# Altium footprint library LED-Driver.PcbLib: 35 footprints (part 1 of 3)
Each footprint in its own frame and in the unit in brackets; x right, y up, seen from the top. Pads: shape width x height; smd on the part's side, far side on the other; paste and mask are expansions set on the pad; w line width, h text height; cw(c..) or ccw(c..) is an arc to the next point about the centre after c.
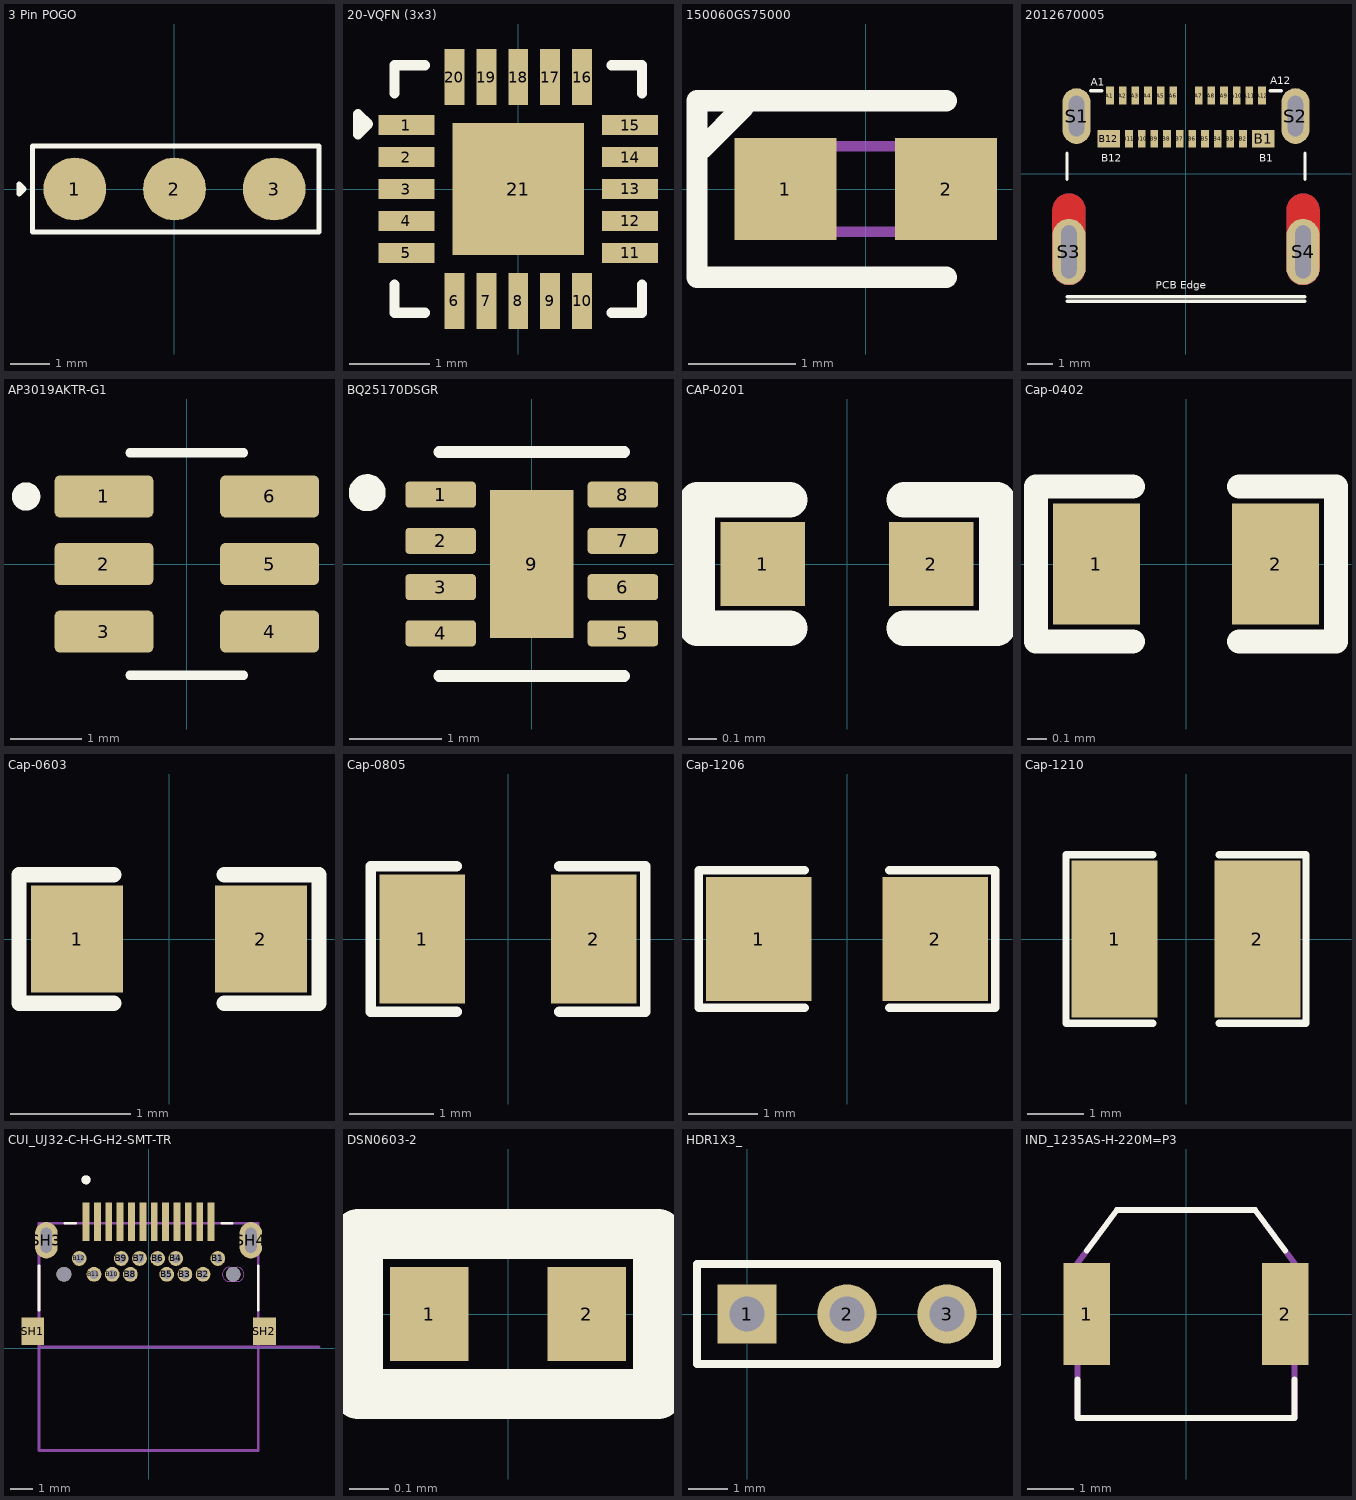
[diagram p0: the footprints below, top view; thin cyan lines are the x and y axes]

## 3 Pin POGO [mm]
pads (3):
  round 1.6 smd: 1(-2.54,0) 2(0,0) 3(2.54,0)
Top Overlay:
  lines w0.127: -3.962,-0.127 -3.962,0.127 -3.835,0 -3.962,-0.127 ; -3.616,-1.092 3.683,-1.092 3.683,1.092 -3.616,1.092 -3.616,-1.092

## 20-VQFN (3x3) [mm]
pads (21):
  rect 0.7x0.25 smd: 1(-1.4,0.8) 2(-1.4,0.4) 3(-1.4,0) 4(-1.4,-0.4) 5(-1.4,-0.8) 11(1.4,-0.8) 12(1.4,-0.4) 13(1.4,0) 14(1.4,0.4) 15(1.4,0.8)
  rect 0.25x0.7 smd: 6(-0.8,-1.4) 7(-0.4,-1.4) 8(0,-1.4) 9(0.4,-1.4) 10(0.8,-1.4) 16(0.8,1.4) 17(0.4,1.4) 18(0,1.4) 19(-0.4,1.4) 20(-0.8,1.4)
  rect 1.65x1.65 smd: 21(0,0)
Top Overlay:
  lines w0.127: -1.549,-1.194 -1.549,-1.549 -1.168,-1.549 ; -1.549,1.194 -1.549,1.549 -1.168,1.549 ; 1.168,-1.549 1.549,-1.549 1.549,-1.194 ; 1.168,1.549 1.549,1.549 1.549,1.194 ; -2.007,0.686 -2.007,0.94 -1.88,0.813 -2.007,0.686
3D body "VQFN20_3X3_MCH.step": height 0.59, standoff 0, extent -1.499,-1.499 1.499,1.499

## 150060GS75000 [mm]
pads (2):
  rect 0.95x0.95 smd: 1(-0.75,0) 2(0.75,0)
Top Overlay:
  lines w0.2: -1.524,0.381 -1.143,0.762 ; 0.75,-0.825 -1.575,-0.825 -1.575,0.825 0.75,0.825
Mechanical 13:
  lines w0.1: -0.8,0.133 -0.533,0.4 ; -0.8,-0.4 -0.8,0.4 0.8,0.4 0.8,-0.4 -0.8,-0.4
3D body "150060GS75000--3DModel-STEP-510211.STEP": height 0.81, standoff 0.01, extent -0.8,-0.4 0.8,0.4

## 2012670005 [mm]
pads (28):
  rect 0.3x0.7 smd: A1(-3,3.085) A2(-2.5,3.085) A3(-2,3.085) A4(-1.5,3.085) A5(-1,3.085) A6(-0.5,3.085) A7(0.5,3.085) A8(1,3.085) A9(1.5,3.085) A10(2,3.085) A11(2.5,3.085) A12(3,3.085) B2(2.25,1.385) B3(1.75,1.385) B4(1.25,1.385) B5(0.75,1.385) B6(0.25,1.385) B7(-0.25,1.385) B8(-0.75,1.385) B9(-1.25,1.385) B10(-1.75,1.385) B11(-2.25,1.385)
  rect 0.9x0.7 smd: B1(3.05,1.385) B12(-3.05,1.385)
  oval 1.1x2.2 hole 0.6 slot 1.6 at 90 deg: S1(-4.32,2.275) S2(4.32,2.275)
  oval 1.3x2.6 hole 0.6 slot 2.1 at 90 deg: S3(-4.62,-3.085) S4(4.62,-3.085)
Top Layer:
  region: 4.654,-0.786 4.688,-0.789 4.722,-0.793 4.755,-0.799 4.788,-0.807 4.821,-0.817 4.853,-0.828 4.884,-0.841 4.915,-0.856 4.945,-0.872 4.974,-0.89 5.002,-0.909 5.029,-0.93 5.055,-0.952 5.08,-0.975 5.103,-1 5.125,-1.026 5.146,-1.053 5.165,-1.081 5.183,-1.11 5.199,-1.14 5.214,-1.171 5.227,-1.202 5.238,-1.234 5.248,-1.267 5.256,-1.3 5.262,-1.333 5.266,-1.367 5.269,-1.401 5.27,-1.435 5.27,-3.735 5.269,-3.769 5.266,-3.803 5.262,-3.837 5.256,-3.87 5.248,-3.903 5.238,-3.936 5.227,-3.968 5.214,-3.999 5.199,-4.03 5.183,-4.06 5.165,-4.089 5.146,-4.117 5.125,-4.144 5.103,-4.17 5.08,-4.195 5.055,-4.218 5.029,-4.24 5.002,-4.261 4.974,-4.28 4.945,-4.298 4.915,-4.314 4.884,-4.329 4.853,-4.342 4.821,-4.353 4.788,-4.363 4.755,-4.371 4.722,-4.377 4.688,-4.381 4.654,-4.384 4.62,-4.385 4.586,-4.384 4.552,-4.381 4.518,-4.377 4.485,-4.371 4.452,-4.363 4.419,-4.353 4.387,-4.342 4.356,-4.329 4.325,-4.314 4.295,-4.298 4.266,-4.28 4.238,-4.261 4.211,-4.24 4.185,-4.218 4.16,-4.195 4.137,-4.17 4.115,-4.144 4.094,-4.117 4.075,-4.089 4.057,-4.06 4.041,-4.03 4.026,-3.999 4.013,-3.968 4.002,-3.936 3.992,-3.903 3.984,-3.87 3.978,-3.837 3.974,-3.803 3.971,-3.769 3.97,-3.735 3.97,-1.435 3.971,-1.401 3.974,-1.367 3.978,-1.333 3.984,-1.3 3.992,-1.267 4.002,-1.234 4.013,-1.202 4.026,-1.171 4.041,-1.14 4.057,-1.11 4.075,-1.081 4.094,-1.053 4.115,-1.026 4.137,-1 4.16,-0.975 4.185,-0.952 4.211,-0.93 4.238,-0.909 4.266,-0.89 4.295,-0.872 4.325,-0.856 4.356,-0.841 4.387,-0.828 4.419,-0.817 4.452,-0.807 4.485,-0.799 4.518,-0.793 4.552,-0.789 4.586,-0.786 4.62,-0.785
  region: -4.586,-0.786 -4.552,-0.789 -4.518,-0.793 -4.485,-0.799 -4.452,-0.807 -4.419,-0.817 -4.387,-0.828 -4.356,-0.841 -4.325,-0.856 -4.295,-0.872 -4.266,-0.89 -4.238,-0.909 -4.211,-0.93 -4.185,-0.952 -4.16,-0.975 -4.137,-1 -4.115,-1.026 -4.094,-1.053 -4.075,-1.081 -4.057,-1.11 -4.041,-1.14 -4.026,-1.171 -4.013,-1.202 -4.002,-1.234 -3.992,-1.267 -3.984,-1.3 -3.978,-1.333 -3.974,-1.367 -3.971,-1.401 -3.97,-1.435 -3.97,-3.735 -3.971,-3.769 -3.974,-3.803 -3.978,-3.837 -3.984,-3.87 -3.992,-3.903 -4.002,-3.936 -4.013,-3.968 -4.026,-3.999 -4.041,-4.03 -4.057,-4.06 -4.075,-4.089 -4.094,-4.117 -4.115,-4.144 -4.137,-4.17 -4.16,-4.195 -4.185,-4.218 -4.211,-4.24 -4.238,-4.261 -4.266,-4.28 -4.295,-4.298 -4.325,-4.314 -4.356,-4.329 -4.387,-4.342 -4.419,-4.353 -4.452,-4.363 -4.485,-4.371 -4.518,-4.377 -4.552,-4.381 -4.586,-4.384 -4.62,-4.385 -4.654,-4.384 -4.688,-4.381 -4.722,-4.377 -4.755,-4.371 -4.788,-4.363 -4.821,-4.353 -4.853,-4.342 -4.884,-4.329 -4.915,-4.314 -4.945,-4.298 -4.974,-4.28 -5.002,-4.261 -5.029,-4.24 -5.055,-4.218 -5.08,-4.195 -5.103,-4.17 -5.125,-4.144 -5.146,-4.117 -5.165,-4.089 -5.183,-4.06 -5.199,-4.03 -5.214,-3.999 -5.227,-3.968 -5.238,-3.936 -5.248,-3.903 -5.256,-3.87 -5.262,-3.837 -5.266,-3.803 -5.269,-3.769 -5.27,-3.735 -5.27,-1.435 -5.269,-1.401 -5.266,-1.367 -5.262,-1.333 -5.256,-1.3 -5.248,-1.267 -5.238,-1.234 -5.227,-1.202 -5.214,-1.171 -5.199,-1.14 -5.183,-1.11 -5.165,-1.081 -5.146,-1.053 -5.125,-1.026 -5.103,-1 -5.08,-0.975 -5.055,-0.952 -5.029,-0.93 -5.002,-0.909 -4.974,-0.89 -4.945,-0.872 -4.915,-0.856 -4.884,-0.841 -4.853,-0.828 -4.821,-0.817 -4.788,-0.807 -4.755,-0.799 -4.722,-0.793 -4.688,-0.789 -4.654,-0.786 -4.62,-0.785
Bottom Layer:
  region: 4.654,-0.786 4.688,-0.789 4.722,-0.793 4.755,-0.799 4.788,-0.807 4.821,-0.817 4.853,-0.828 4.884,-0.841 4.915,-0.856 4.945,-0.872 4.974,-0.89 5.002,-0.909 5.029,-0.93 5.055,-0.952 5.08,-0.975 5.103,-1 5.125,-1.026 5.146,-1.053 5.165,-1.081 5.183,-1.11 5.199,-1.14 5.214,-1.171 5.227,-1.202 5.238,-1.234 5.248,-1.267 5.256,-1.3 5.262,-1.333 5.266,-1.367 5.269,-1.401 5.27,-1.435 5.27,-3.735 5.269,-3.769 5.266,-3.803 5.262,-3.837 5.256,-3.87 5.248,-3.903 5.238,-3.936 5.227,-3.968 5.214,-3.999 5.199,-4.03 5.183,-4.06 5.165,-4.089 5.146,-4.117 5.125,-4.144 5.103,-4.17 5.08,-4.195 5.055,-4.218 5.029,-4.24 5.002,-4.261 4.974,-4.28 4.945,-4.298 4.915,-4.314 4.884,-4.329 4.853,-4.342 4.821,-4.353 4.788,-4.363 4.755,-4.371 4.722,-4.377 4.688,-4.381 4.654,-4.384 4.62,-4.385 4.586,-4.384 4.552,-4.381 4.518,-4.377 4.485,-4.371 4.452,-4.363 4.419,-4.353 4.387,-4.342 4.356,-4.329 4.325,-4.314 4.295,-4.298 4.266,-4.28 4.238,-4.261 4.211,-4.24 4.185,-4.218 4.16,-4.195 4.137,-4.17 4.115,-4.144 4.094,-4.117 4.075,-4.089 4.057,-4.06 4.041,-4.03 4.026,-3.999 4.013,-3.968 4.002,-3.936 3.992,-3.903 3.984,-3.87 3.978,-3.837 3.974,-3.803 3.971,-3.769 3.97,-3.735 3.97,-1.435 3.971,-1.401 3.974,-1.367 3.978,-1.333 3.984,-1.3 3.992,-1.267 4.002,-1.234 4.013,-1.202 4.026,-1.171 4.041,-1.14 4.057,-1.11 4.075,-1.081 4.094,-1.053 4.115,-1.026 4.137,-1 4.16,-0.975 4.185,-0.952 4.211,-0.93 4.238,-0.909 4.266,-0.89 4.295,-0.872 4.325,-0.856 4.356,-0.841 4.387,-0.828 4.419,-0.817 4.452,-0.807 4.485,-0.799 4.518,-0.793 4.552,-0.789 4.586,-0.786 4.62,-0.785
  region: -4.586,-0.786 -4.552,-0.789 -4.518,-0.793 -4.485,-0.799 -4.452,-0.807 -4.419,-0.817 -4.387,-0.828 -4.356,-0.841 -4.325,-0.856 -4.295,-0.872 -4.266,-0.89 -4.238,-0.909 -4.211,-0.93 -4.185,-0.952 -4.16,-0.975 -4.137,-1 -4.115,-1.026 -4.094,-1.053 -4.075,-1.081 -4.057,-1.11 -4.041,-1.14 -4.026,-1.171 -4.013,-1.202 -4.002,-1.234 -3.992,-1.267 -3.984,-1.3 -3.978,-1.333 -3.974,-1.367 -3.971,-1.401 -3.97,-1.435 -3.97,-3.735 -3.971,-3.769 -3.974,-3.803 -3.978,-3.837 -3.984,-3.87 -3.992,-3.903 -4.002,-3.936 -4.013,-3.968 -4.026,-3.999 -4.041,-4.03 -4.057,-4.06 -4.075,-4.089 -4.094,-4.117 -4.115,-4.144 -4.137,-4.17 -4.16,-4.195 -4.185,-4.218 -4.211,-4.24 -4.238,-4.261 -4.266,-4.28 -4.295,-4.298 -4.325,-4.314 -4.356,-4.329 -4.387,-4.342 -4.419,-4.353 -4.452,-4.363 -4.485,-4.371 -4.518,-4.377 -4.552,-4.381 -4.586,-4.384 -4.62,-4.385 -4.654,-4.384 -4.688,-4.381 -4.722,-4.377 -4.755,-4.371 -4.788,-4.363 -4.821,-4.353 -4.853,-4.342 -4.884,-4.329 -4.915,-4.314 -4.945,-4.298 -4.974,-4.28 -5.002,-4.261 -5.029,-4.24 -5.055,-4.218 -5.08,-4.195 -5.103,-4.17 -5.125,-4.144 -5.146,-4.117 -5.165,-4.089 -5.183,-4.06 -5.199,-4.03 -5.214,-3.999 -5.227,-3.968 -5.238,-3.936 -5.248,-3.903 -5.256,-3.87 -5.262,-3.837 -5.266,-3.803 -5.269,-3.769 -5.27,-3.735 -5.27,-1.435 -5.269,-1.401 -5.266,-1.367 -5.262,-1.333 -5.256,-1.3 -5.248,-1.267 -5.238,-1.234 -5.227,-1.202 -5.214,-1.171 -5.199,-1.14 -5.183,-1.11 -5.165,-1.081 -5.146,-1.053 -5.125,-1.026 -5.103,-1 -5.08,-0.975 -5.055,-0.952 -5.029,-0.93 -5.002,-0.909 -4.974,-0.89 -4.945,-0.872 -4.915,-0.856 -4.884,-0.841 -4.853,-0.828 -4.821,-0.817 -4.788,-0.807 -4.755,-0.799 -4.722,-0.793 -4.688,-0.789 -4.654,-0.786 -4.62,-0.785
Top Overlay:
  lines w0.127: -4.699,-4.855 4.699,-4.855 ; -4.695,-5.035 4.695,-5.035 ; -4.695,-0.225 -4.695,0.815 ; -3.759,3.277 -3.327,3.277 ; 3.327,3.277 3.759,3.277 ; 4.695,-0.225 4.695,0.815
  text "A1" at -3.759,3.48 h0.3
  text "B12" at -3.353,0.483 h0.3
  text "A12" at 3.327,3.531 h0.3
  text "B1" at 2.896,0.483 h0.3
  text "PCB Edge" at -1.194,-4.547 h0.3
Top Solder:
  drawing of 2 lines, arcs and shapes, not listed
Bottom Solder:
  drawing of 2 lines, arcs and shapes, not listed
3D body "201267-0005.stp": height 3.72, standoff -2.29, extent -4.695,-4.928 4.695,3.372

## AP3019AKTR-G1 [mm]
pads (6):
  rrect25% 1.39x0.59 smd: 1(-1.165,0.95) 2(-1.165,0) 3(-1.165,-0.95) 4(1.165,-0.95) 5(1.165,0) 6(1.165,0.95)
Top Overlay:
  circle w0.2: c-2.261,0.95 r0.1
  lines w0.127: -0.8,-1.565 0.8,-1.565 ; -0.8,1.565 0.8,1.565
3D body "AP3019AKTR-G1.STEP": height 1.31, standoff -0.09, extent -1.368,-1.488 1.482,1.512

## BQ25170DSGR [mm]
pads (9):
  rrect25% 0.76x0.28 smd: 1(-0.985,0.75) 2(-0.985,0.25) 3(-0.985,-0.25) 4(-0.985,-0.75) 5(0.985,-0.75) 6(0.985,-0.25) 7(0.985,0.25) 8(0.985,0.75)
  rect 0.9x1.6 smd paste-2: 9(0,0)
Top Overlay:
  circle w0.2: c-1.779,0.771 r0.1
  lines w0.127: -1,-1.21 1,-1.21 ; -1,1.21 1,1.21
Top Paste:
  region: 0.45,0.1 -0.45,0.1 -0.45,0.8 0.45,0.8
  region: 0.45,-0.8 -0.45,-0.8 -0.45,-0.1 0.45,-0.1
3D body "step_temp.STEP": height 0.8, standoff 0, extent -1,-1 1,1

## CAP-0201 [mm]
pads (2):
  rect 0.3x0.3 smd mask+0.055: 1(-0.3,0) 2(0.3,0)
Top Overlay:
  lines w0.127: -0.203,-0.229 -0.533,-0.229 -0.533,0.229 -0.203,0.229 ; 0.203,-0.229 0.533,-0.229 0.533,0.229 0.203,0.229
3D body "User Library-SMD Ceramic Capacitors_0201 (0603)_AB.STEP": height 0.28, standoff -0.02, extent -0.3,-0.15 0.301,0.15

## Cap-0402 [mil]
pads (2):
  rect 18x25 smd mask+2.36: 1(-18.5,0) 2(18.5,0)
Top Overlay:
  lines w5: -11,-16 -31,-16 -31,16 -11,16 ; 11,-16 31,-16 31,16 11,16
3D body "User Library-Capacitor 0402.step": height 18.5, standoff -1.18, extent -19.68,-9.84 19.7,9.85

## Cap-0603 [mil]
pads (2):
  rect 30x35 smd mask+2.36: 1(-30,0) 2(30,0)
Top Overlay:
  lines w5: -18,-21 -49,-21 -49,21 -18,21 ; 18,-21 49,-21 49,21 18,21
3D body "User Library-CAPC1608X09.step": height 34.25, standoff -1.18, extent -31.51,-15.75 31.49,15.74

## Cap-0805 [mil] "SMD 0805"
pads (2):
  rect 40x60 smd mask+2.76: 1(-40,0) 2(40,0)
Top Overlay:
  lines w5: -24,-34 -64,-34 -64,34 -24,34 ; 24,-34 64,-34 64,34 24,34
3D body "User Library-0805 SMD Capacitor.step": height 30, standoff -0.79, extent -39.36,-24.6 39.38,24.61

## Cap-1206 [mil] "SMD 1206"
pads (2):
  rect 60x70 smd: 1(-50,0) 2(50,0)
Top Overlay:
  lines w5: -24,-39 -84,-39 -84,39 -24,39 ; 24,-39 84,-39 84,39 24,39
3D body "User Library-1206 SMD Capacitor.step": height 39.45, standoff 0, extent -62.96,-31.46 63.03,31.53

## Cap-1210 [mil] "SMD 1210"
pads (2):
  rect 60x110 smd: 1(-50,0) 2(50,0)
Top Overlay:
  lines w5: -23,-59 -84,-59 -84,59 -23,59 ; 23,-59 84,-59 84,59 23,59
3D body "User Library-CAPC3225X10.step": height 39.37, standoff 0, extent -62.99,-49.21 63,49.22

## CUI_UJ32-C-H-G-H2-SMT-TR [mm]
pads (30):
  rect 0.3x1.7 smd mask+0.05: A1(-2.75,5.56) A2(-2.25,5.56) A3(-1.75,5.56) A4(-1.25,5.56) A5(-0.75,5.56) A6(-0.25,5.56) A7(0.25,5.56) A8(0.75,5.56) A9(1.25,5.56) A10(1.75,5.56) A11(2.25,5.56) A12(2.75,5.56)
  round 0.65 hole 0.4: B1(3.05,3.95) B2(2.4,3.25) B3(1.6,3.25) B4(1.2,3.95) B5(0.8,3.25) B6(0.4,3.95) B7(-0.4,3.95) B8(-0.8,3.25) B9(-1.2,3.95) B10(-1.6,3.25) B11(-2.4,3.25) B12(-3.05,3.95)
  rect 1x1.2 smd: SH1(-5.1,0.75) SH2(5.1,0.75)
  oval 1x1.6 hole 0.5 slot 1.1 at 90 deg: SH3(-4.5,4.75) SH4(4.5,4.75)
  round 0.65 hole 0.65 unplated: ""(-3.725,3.25)
  round 0.63 hole 0.63 unplated: ""(3.725,3.25)
Top Overlay:
  circle w0.2: c-2.75,7.41 r0.1
  lines w0.127: -4.825,1.67 -4.825,3.63 ; -3.68,5.5 -3.22,5.5 ; 3.22,5.5 3.68,5.5 ; 4.825,1.67 4.825,3.63
Mechanical 1:
  lines w0: 3.25,3.25 ccw(c3.565,3.25) 3.565,2.935 3.885,2.935 ccw(c3.885,3.25) 4.2,3.25 ccw(c3.885,3.25) 3.885,3.565 3.565,3.565 ccw(c3.565,3.25) 3.25,3.25
Mechanical 13:
  circle w0.2: c-2.75,7.41 r0.1
  lines w0.127: 7.5,0.05 -4.825,0.05 ; -4.825,0.05 -4.825,5.5 4.825,5.5 4.825,-4.5 -4.825,-4.5 -4.825,0.05
  text "PCB Edge" at 6.5,0.15 h0.61
3D body "CUI_DEVICES_UJ32-C-H-G-H2-SMT-TR.step": height 3.43, standoff -2.23, extent -5.206,-4.419 5.194,5.891

## DSN0603-2 [mm]
pads (2):
  rect 0.2x0.24 smd mask+0.055: 1(-0.2,0) 2(0.2,0)
Top Overlay:
  lines w0.127: -0.381,-0.203 0.381,-0.203 0.381,0.203 -0.381,0.203 -0.381,-0.203
3D body "PESD5V0H1BSF.STEP": height 0.32, standoff 0, extent -0.3,-0.15 0.3,0.15

## HDR1X3_ [mm] "Connector; Header; 3 Position"
pads (3):
  rect 1.5x1.5 hole 0.9: 1(0,0)
  round 1.5 hole 0.9: 2(2.54,0) 3(5.08,0)
Top Overlay:
  lines w0.2: -1.27,-1.27 -1.27,1.27 6.35,1.27 6.35,-1.27 -1.27,-1.27
3D body "User Library-Header_Male_3Pin.STEP": height 8.54, standoff -3, extent -1.27,-1.245 6.35,1.245

## IND_1235AS-H-220M=P3 [mm]
pads (2):
  rect 1x2.2 smd: 1(-2.15,0) 2(2.15,0)
Top Overlay:
  lines w0.127: -2.35,-1.42 -2.35,-2.25 2.35,-2.25 2.35,-1.42 ; -2.15,1.37 -1.5,2.25 1.5,2.25 2.15,1.37
Mechanical 13:
  lines w0.127: -2.35,-2.25 2.35,-2.25 2.35,1.1 1.5,2.25 -1.5,2.25 -2.35,1.1 -2.35,-2.25
3D body "1235AS-H-220M=P3--3DModel-STEP-46669.STEP": height 1.79, standoff -0.01, extent -2.35,-2.286 2.35,2.214